# Altium footprint library Diodes_Transistors.PcbLib: 22 footprints (part 1 of 2)
Each footprint in its own frame and in the unit in brackets; x right, y up, seen from the top. Pads: shape width x height; smd on the part's side, far side on the other; paste and mask are expansions set on the pad; w line width, h text height; cw(c..) or ccw(c..) is an arc to the next point about the centre after c.
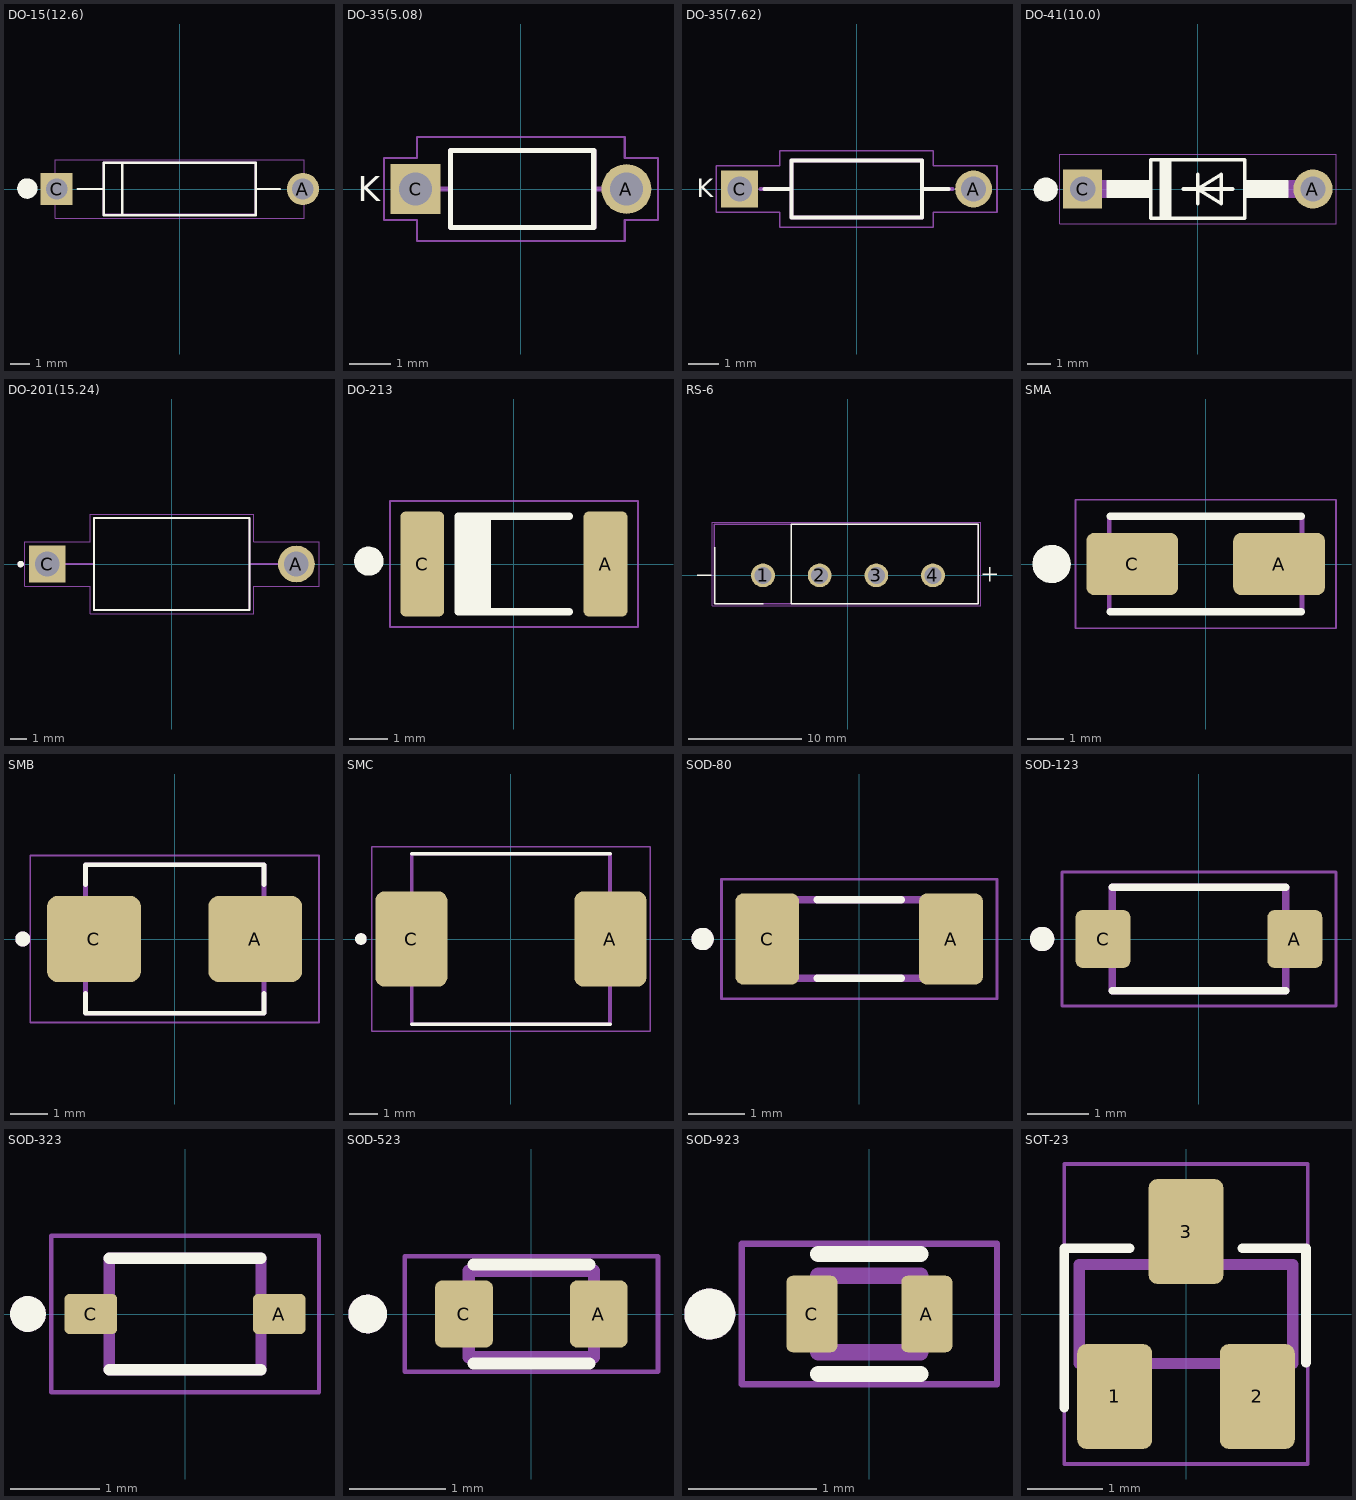
[diagram p0: the footprints below, top view; thin cyan lines are the x and y axes]

## DO-15(12.6) [mm]
pads (2):
  round 1.65 hole 1.1: A(6.3,0)
  rect 1.65x1.65 hole 1.1: C(-6.3,0)
Top Overlay:
  circle w0.2: c-7.8,0.025 r0.424
  circle w0.2: c-7.8,0.025 r0.283
  circle w0.2: c-7.8,0.025 r0.141
  circle w0.2: c-7.8,0.025 r0.1
  lines w0.127: -5.225,0 -3.9,0 ; 3.9,0 5.125,0 ; -3.9,0 -3.9,1.35 -2.95,1.35 ; -3.9,0 -3.9,-1.3 -3.9,-1.35 -2.95,-1.35 ; -2.95,-1.35 -2.95,1.35 ; -2.95,-1.35 3.9,-1.35 3.9,1.35 2.6,1.35 -2.95,1.35
Mechanical 13:
  lines w0.127: -3.9,-1.325 3.9,-1.325 3.9,1.35 -3.9,1.35 -3.9,-1.325
Border (Mech15):
  lines w0.05: -6.375,-1.5 -6.375,1.5 6.375,1.5 6.375,-1.5 -6.375,-1.5
3D body "User Library-DO15A_12_6.step": height 3.8, standoff 0, extent -6.725,-1.85 6.775,1.75

## DO-35(5.08) [mm]
pads (2):
  round 1.2 hole 0.8: A(2.54,0)
  rect 1.2x1.2 hole 0.8: C(-2.54,0)
Top Overlay:
  lines w0.127: -1.7,-0.925 1.75,-0.925 1.75,0.375 1.75,0.925 -1.7,0.925 -1.7,0.425 -1.7,0 -1.7,-0.925
  text "K" at -3.925,-0.3 h0.61
Mechanical 13:
  lines w0.127: -2.5,0 -1.7,0 ; 2.55,0 1.75,0 ; -1.7,0 -1.7,-0.425 -1.7,-0.925 1.75,-0.925 1.75,-0.375 1.75,0 ; -1.7,0 -1.7,0.925 1.75,0.925 1.75,0
Border (Mech15):
  lines w0.05: -3.3,-0.75 -3.3,0.75 -2.5,0.75 -2.5,1.25 2.5,1.25 2.5,0.75 3.3,0.75 3.3,-0.75 2.5,-0.75 2.5,-1.25 -2.5,-1.25 -2.5,-0.75 -3.3,-0.75
3D body "User Library-DO-35G-20.step": height 1.82, standoff -2, extent -2.815,-0.901 2.815,0.901

## DO-35(7.62) [mm]
pads (2):
  round 1.2 hole 0.8: A(3.81,0)
  rect 1.2x1.2 hole 0.8: C(-3.81,0)
Top Overlay:
  lines w0.127: -3,0 -2.125,0 ; 3,0 2.125,0 ; -2.125,0 -2.125,0.925 2.125,0.925 2.125,0 ; -2.125,0 -2.125,-0.925 2.125,-0.925 2.125,0
  text "K" at -5.2,-0.275 h0.61
Mechanical 13:
  lines w0.127: -3.125,0 -2.125,0 ; 3.125,0 2.125,0 ; -2.125,0 -2.125,0.925 2.125,0.925 2.125,0 ; -2.125,0 -2.125,-0.925 2.125,-0.925 2.125,0
Border (Mech15):
  lines w0.05: -4.575,-0.75 -2.5,-0.75 -2.5,-1.25 2.5,-1.25 2.5,-0.75 4.575,-0.75 4.575,0.75 2.5,0.75 2.5,1.25 -2.5,1.25 -2.5,0.75 -4.575,0.75 -4.575,-0.75
3D body "User Library-DO-35G-30.step": height 1.82, standoff -2, extent -4.085,-0.901 4.085,0.901

## DO-41(10.0) [mm]
pads (2):
  round 1.7 hole 1.1: A(5,0)
  rect 1.7x1.7 hole 1.1: C(-5,0)
Top Overlay:
  circle w0.2: c-6.6,-0.025 r0.1
  circle w0.2: c-6.6,-0.025 r0.141
  circle w0.2: c-6.6,-0.025 r0.283
  circle w0.2: c-6.6,-0.025 r0.424
  region: -2.032,-0.382 -3.943,-0.382 -3.943,0.381 -2.032,0.381
  region: 3.937,-0.382 2.037,-0.382 2.037,0.381 3.937,0.381
  region: -1.143,-1.271 -1.652,-1.271 -1.652,1.27 -1.143,1.27
  lines w0.152: -0.635,0 0,0 ; 0,-0.635 0,0 ; 0,0.635 0,0 ; 1.524,0 0,0 ; 0,0 1.016,0.635 1.016,-0.635 0,0 ; -2.032,-1.27 -2.032,1.27 2.032,1.27 2.032,-1.27 -2.032,-1.27
Mechanical 13:
  lines w0.762: -5.08,0 -4.064,0 ; 4.064,0 5.08,0
Border (Mech15):
  lines w0.05: -6,-1.5 6,-1.5 6,1.5 -6,1.5 -6,-1.5
3D body "User Library-DO-41 10mm.step": height 4.36, standoff -1, extent -5.43,-1.35 5.43,1.375

## DO-201(15.24) [mm]
pads (2):
  round 2.25 hole 1.5: A(7.62,0)
  rect 2.25x2.25 hole 1.5: C(-7.62,0)
Top Overlay:
  circle w0.2: c-9.245,-0.005 r0.1
  lines w0.127: -4.75,-2.8 -4.75,2.8 4.75,2.8 4.75,-2.8 -4.75,-2.8
Mechanical 13:
  circle w0.2: c-9.245,-0.005 r0.1
  lines w0.127: -7.575,0 -4.75,0 ; 4.75,0 7.725,0 ; -4.75,0 -4.75,2.8 4.75,2.8 4.75,-2.8 -4.75,-2.8 -4.75,0
Border (Mech15):
  lines w0.05: -9,-1.375 -5,-1.375 -5,-3.05 5,-3.05 5,-1.375 9,-1.375 9,1.375 5,1.375 5,3.05 -5,3.05 -5,1.375 -9,1.375 -9,-1.375
3D body "User Library-DO-201AD.STEP": height 7.6, standoff -4, extent -8.28,-2.8 8.28,2.8

## DO-213 [mm]
pads (2):
  rrect25% 1.15x2.75 smd: A(2.4,0) C(-2.4,0)
Top Overlay:
  circle w0.2: c-3.8,0.075 r0.283
  circle w0.2: c-3.8,0.075 r0.141
  circle w0.2: c-3.8,0.075 r0.1
  region: -0.6,-1.283 -1.493,-1.283 -1.493,1.283 -0.6,1.283
  lines w0.2: 1.45,-1.25 -1.45,-1.25 -1.45,1.25 1.45,1.25
Border (Mech15):
  lines w0.05: -3.25,-1.65 3.25,-1.65 3.25,1.65 -3.25,1.65 -3.25,-1.65
3D body "User Library-Vishay - MELF DO-213AB.step": height 2.64, standoff -0.04, extent -2.6,-1.3 2.6,1.37

## RS-6 [mm]
pads (4):
  round 2.1 hole 1.5: 1(-7.5,0) 2(-2.5,0) 3(2.5,0) 4(7.5,0)
Top Overlay:
  lines w0.127: -13.325,0 -12.075,0 ; -11.75,2.5 -11.75,-2.5 -7.5,-2.5 ; 11.9,0.1 13.15,0.1 ; 12.525,-0.525 12.525,0.725 ; -5,-2.5 11.5,-2.5 11.5,4.5 -5,4.5 -5,-2.5
Mechanical 13:
  lines w0.127: -11.8,-2.5 11.5,-2.5 11.5,4.5 -11.7,4.5 -11.8,4.5 -11.8,-2.5
Border (Mech15):
  lines w0.05: -12,-2.7 11.7,-2.7 11.7,4.7 -12,4.7 -12,-2.7
3D body "User Library-Silicon Bridge Rectifiers RS607.step": height 18.65, standoff -26.65, extent -11.6,-2.5 11.6,4.45

## SMA [mm]
pads (2):
  rrect25% 2.5x1.7 smd: A(2,0) C(-2,0)
Top Overlay:
  circle w0.2: c-4.2,0 r0.1
  circle w0.2: c-4.2,0 r0.141
  circle w0.2: c-4.2,0 r0.283
  circle w0.2: c-4.2,0 r0.424
  lines w0.2: -2.6,-1.3 2.6,-1.3 ; -2.6,1.3 2.6,1.3
Mechanical 13:
  lines w0.127: -2.625,-1.3 -2.625,1.3 2.625,1.3 2.625,-1.3 -2.625,-1.3
Border (Mech15):
  lines w0.05: -3.55,-1.75 -3.55,1.75 3.55,1.75 3.55,-1.75 -3.55,-1.75
3D body "User Library-DO-214AC SMA.step": height 2.4, standoff 0, extent -2.6,-1.3 2.6,1.3

## SMB [mm]
pads (2):
  rrect25% 2.5x2.3 smd: A(2.15,0) C(-2.15,0)
Top Overlay:
  circle w0.2: c-4.05,0 r0.1
  lines w0.127: -2.38,-1.455 -2.38,-1.98 2.38,-1.98 2.38,-1.455 ; -2.38,1.455 -2.38,1.98 2.38,1.98 2.38,1.455
Mechanical 13:
  circle w0.2: c-4.05,0 r0.1
  lines w0.127: -2.38,-1.98 2.38,-1.98 2.38,1.98 -2.38,1.98 -2.38,-1.98
Border (Mech15):
  lines w0.05: -3.85,-2.23 3.85,-2.23 3.85,2.23 -3.85,2.23 -3.85,-2.23
3D body "User Library-DO-214AA SMB.step": height 2.3, standoff 0, extent -2.7,-1.8 2.7,1.8

## SMC [mm]
pads (2):
  rrect25% 2.5x3.3 smd: A(3.45,0) C(-3.45,0)
Top Overlay:
  circle w0.2: c-5.2,0 r0.1
  lines w0.127: -3.437,-2.95 3.437,-2.95 ; -3.437,2.95 3.437,2.95
Mechanical 13:
  circle w0.2: c-5.2,0 r0.1
  lines w0.127: -3.437,-2.95 3.437,-2.95 3.437,2.95 -3.437,2.95 -3.437,-2.95
Border (Mech15):
  lines w0.05: -4.83,-3.2 4.83,-3.2 4.83,3.2 -4.83,3.2 -4.83,-3.2
3D body "User Library-DO-214AB SMC.step": height 2.3, standoff 0, extent -3.975,-2.95 3.975,2.95

## SOD-80 [mm]
pads (2):
  rrect25% 1.14x1.63 smd: A(1.64,0) C(-1.64,0)
Top Overlay:
  circle w0.2: c-2.795,0 r0.1
  lines w0.127: -0.75,-0.7 0.75,-0.7 ; -0.75,0.7 0.75,0.7
Mechanical 13:
  circle w0.2: c-2.795,0 r0.1
  lines w0.127: -1.7,-0.7 -1.7,0.7 1.7,0.7 1.7,-0.7 -1.7,-0.7
Border (Mech15):
  lines w0.05: -2.46,-1.065 -2.46,1.065 2.46,1.065 2.46,-1.065 -2.46,-1.065
3D body "User Library-MiniMelf-2.step": height 1.6, standoff 0, extent -1.88,-0.8 1.82,0.8

## SOD-123 [mm]
pads (2):
  rrect25% 0.9x0.95 smd: A(1.575,0) C(-1.575,0)
Top Overlay:
  circle w0.2: c-2.575,0 r0.1
  lines w0.127: -1.425,-0.85 1.425,-0.85 ; -1.425,0.85 1.425,0.85
Mechanical 13:
  circle w0.2: c-2.575,0 r0.1
  lines w0.127: -1.425,-0.85 -1.425,0.85 1.425,0.85 1.425,-0.85 -1.425,-0.85
Border (Mech15):
  lines w0.05: -2.25,-1.1 -2.25,1.1 2.25,1.1 2.25,-1.1 -2.25,-1.1
3D body "User Library-SOD-123_DiodesInc.step": height 1.42, standoff -0.03, extent -1.975,-0.85 1.875,0.85

## SOD-323 [mm]
pads (2):
  rrect25% 0.59x0.45 smd: A(1.055,0) C(-1.055,0)
Top Overlay:
  circle w0.2: c-1.76,0 r0.1
  lines w0.127: -0.85,-0.625 0.85,-0.625 ; -0.85,0.625 0.85,0.625
Mechanical 13:
  circle w0.2: c-1.76,0 r0.1
  lines w0.127: -0.85,-0.625 -0.85,0.625 0.85,0.625 0.85,-0.625 -0.85,-0.625
Border (Mech15):
  lines w0.05: -1.5,-0.875 -1.5,0.875 1.5,0.875 1.5,-0.875 -1.5,-0.875
3D body "User Library-SOD323.step": height 1, standoff 0.01, extent -1.25,-0.625 1.25,0.625

## SOD-523 [mm]
pads (2):
  rrect25% 0.6x0.7 smd: A(0.7,0) C(-0.7,0)
Top Overlay:
  circle w0.2: c-1.7,0 r0.1
  lines w0.127: -0.6,-0.515 0.6,-0.515 ; -0.6,0.515 0.6,0.515
Mechanical 13:
  circle w0.2: c-1.7,0 r0.1
  lines w0.127: -0.65,-0.45 -0.65,0.45 0.65,0.45 0.65,-0.45 -0.65,-0.45
Border (Mech15):
  lines w0.05: -1.315,-0.6 -1.315,0.6 1.315,0.6 1.315,-0.6 -1.315,-0.6
3D body "User Library-SOD523-1.step": height 0.7, standoff 0, extent -0.8,-0.399 0.8,0.399

## SOD-923 [mm]
pads (2):
  rrect25% 0.4x0.6 smd: A(0.45,0) C(-0.45,0)
Top Overlay:
  circle w0.2: c-1.25,0 r0.1
  lines w0.127: -0.4,-0.47 0.4,-0.47 ; -0.4,0.47 0.4,0.47
Mechanical 13:
  circle w0.2: c-1.25,0 r0.1
  lines w0.127: -0.4,-0.3 -0.4,0.3 0.4,0.3 0.4,-0.3 -0.4,-0.3
Border (Mech15):
  lines w0.05: -1,-0.55 -1,0.55 1,0.55 1,-0.55 -1,-0.55
3D body "User Library-DIODE_SOD-923.step": height 0.43, standoff 0, extent -0.525,-0.325 0.525,0.325

## SOT-23 [mm]
pads (3):
  rrect25% 1x1.4 smd: 1(-0.95,-1.1) 2(0.95,-1.1) 3(0,1.1)
Top Overlay:
  lines w0.127: -1.625,-1.25 -1.625,-0.45 -1.625,0.675 -1.625,0.875 -0.75,0.875 ; 0.75,0.875 1.6,0.875 1.6,0.675 1.6,-0.65
Mechanical 13:
  region: -0.711,-1.297 -1.17,-1.297 -1.17,-0.711 -0.711,-0.711
  region: 1.168,-1.297 0.712,-1.297 0.712,-0.711 1.168,-0.711
  region: 0.229,0.711 -0.229,0.711 -0.229,1.295 0.229,1.295
  lines w0.152: -1.422,-0.66 -1.422,0.66 1.422,0.66 1.422,-0.66 -1.422,-0.66
Border (Mech15):
  lines w0.05: -1.625,-2 -1.625,2 1.625,2 1.625,-2 -1.625,-2
3D body "User Library-SOT23-2.step": height 1.08, standoff 0, extent -1.5,-1.32 1.5,1.32